# Altium footprint library CapacitorsFootprint.PcbLib: 9 footprints
Each footprint in its own frame and in the unit in brackets; x right, y up, seen from the top. Pads: shape width x height; smd on the part's side, far side on the other; paste and mask are expansions set on the pad; w line width, h text height; cw(c..) or ccw(c..) is an arc to the next point about the centre after c.
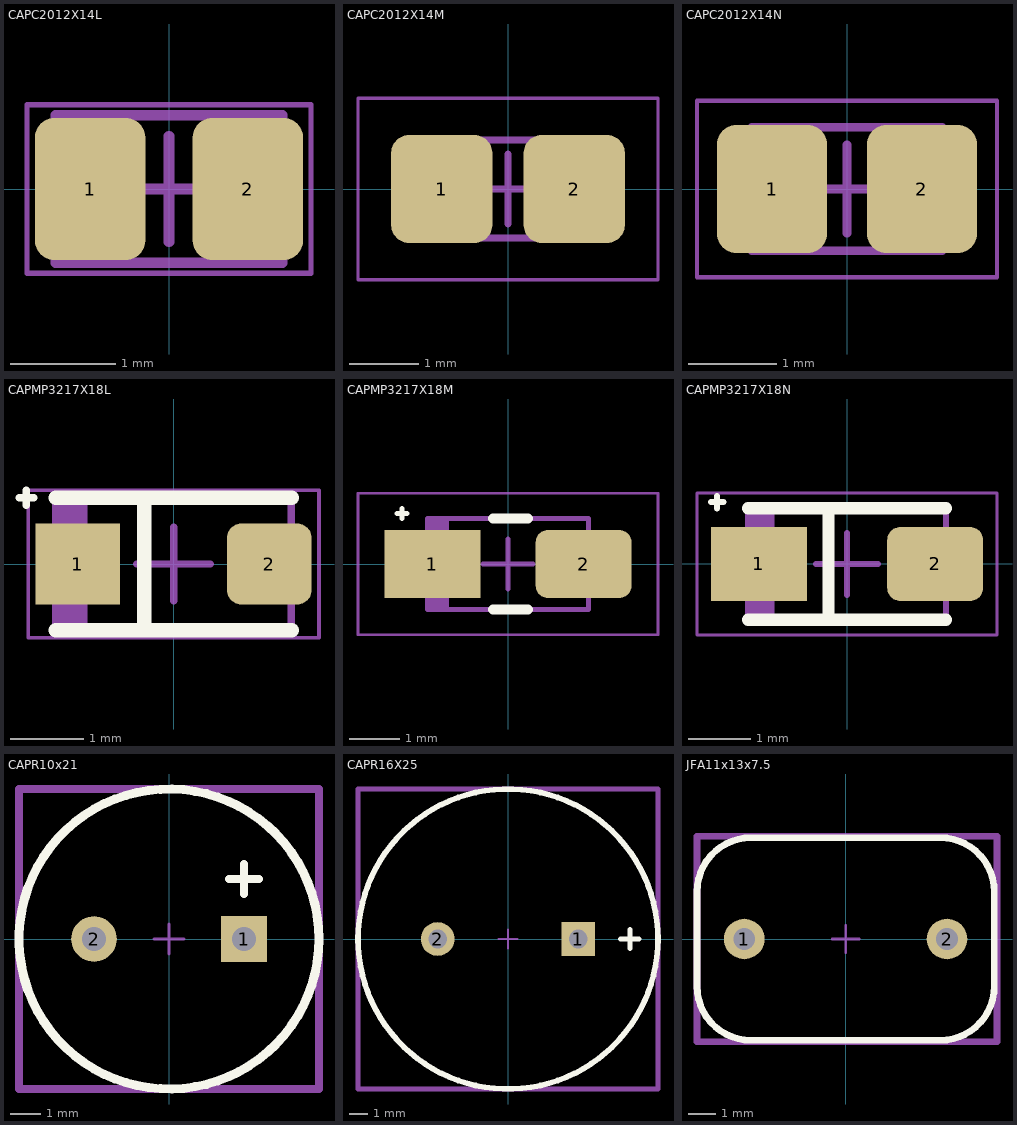
[diagram p0: the footprints below, top view; thin cyan lines are the x and y axes]

## CAPC2012X14L [mm] "Chip Capacitor 0805, 2-Leads, Body 2,00x1,25mm, IPC High Density"
height 1.4
pads (2):
  rrect35% 1.05x1.35 smd: 1(-0.75,0) 2(0.75,0)
Mechanical 13:
  lines w0.1: -1.075,-0.7 1.075,-0.7 1.075,0.7 -1.075,0.7 -1.075,-0.7
Mechanical 15:
  lines w0.05: -1.35,-0.8 1.35,-0.8 1.35,0.8 -1.35,0.8 -1.35,-0.8
  lines w0.1: -0.5,0 0.5,0 ; 0,-0.5 0,0.5
3D body "CAPC2012X14L.step": height 1.4, standoff 0, extent -1.075,-0.7 1.075,0.7

## CAPC2012X14M [mm] "Chip Capacitor 0805, 2-Leads, Body 2,00x1,25mm, IPC Low Density"
height 1.4
pads (2):
  rrect35% 1.45x1.55 smd: 1(-0.95,0) 2(0.95,0)
Mechanical 13:
  lines w0.1: -1.075,-0.7 1.075,-0.7 1.075,0.7 -1.075,0.7 -1.075,-0.7
Mechanical 15:
  lines w0.05: -2.15,-1.3 2.15,-1.3 2.15,1.3 -2.15,1.3 -2.15,-1.3
  lines w0.1: -0.5,0 0.5,0 ; 0,-0.5 0,0.5
3D body "CAPC2012X14M.step": height 1.4, standoff 0, extent -1.075,-0.7 1.075,0.7

## CAPC2012X14N [mm] "Chip Capacitor 0805, 2-Leads, Body 2,00x1,25mm, IPC Medium Density"
height 1.4
pads (2):
  rrect35% 1.25x1.45 smd: 1(-0.85,0) 2(0.85,0)
Mechanical 13:
  lines w0.1: -1.075,-0.7 1.075,-0.7 1.075,0.7 -1.075,0.7 -1.075,-0.7
Mechanical 15:
  lines w0.05: -1.7,-1 1.7,-1 1.7,1 -1.7,1 -1.7,-1
  lines w0.1: -0.5,0 0.5,0 ; 0,-0.5 0,0.5
3D body "CAPC2012X14N.step": height 1.4, standoff 0, extent -1.075,-0.7 1.075,0.7

## CAPMP3217X18L [mm] "Molded Capacitor case A, 2-Leads, Body 3,20x1,70mm, IPC High Density"
height 1.8
pads (2):
  rect 1.15x1.1 smd: 1(-1.3,0)
  rrect35% 1.15x1.1 smd: 2(1.3,0)
Top Overlay:
  lines w0.1: -2.1,0.9 -1.9,0.9 ; -2,0.8 -2,1
  lines w0.2: -1.6,-0.9 1.6,-0.9 ; -1.6,0.9 1.6,0.9 ; -0.4,-0.8 -0.4,0.9
Mechanical 13:
  rectangle: -1.6,-0.9 -1.17,0.9
  lines w0.1: -1.6,-0.9 -1.6,0.9 1.6,0.9 1.6,-0.9 -1.6,-0.9
Mechanical 15:
  lines w0.05: -1.975,-1 -1.975,1 1.975,1 1.975,-1 -1.975,-1
  lines w0.1: -0.5,0 0.5,0 ; 0,-0.5 0,0.5
3D body "CAP_TANT_case_A.STEP": height 1.7, standoff 0, extent -1.7,-0.9 1.7,0.9

## CAPMP3217X18M [mm] "Molded Capacitor case A, 2-Leads, Body 3,20x1,70mm, IPC Low Density"
height 1.8
pads (2):
  rect 1.9x1.35 smd: 1(-1.5,0)
  rrect35% 1.9x1.35 smd: 2(1.5,0)
Top Overlay:
  lines w0.1: -2.2,1 -2,1 ; -2.1,0.9 -2.1,1.1
  lines w0.2: -0.3,-0.9 0.4,-0.9 ; -0.3,0.9 0.4,0.9
Mechanical 13:
  rectangle: -1.6,-0.9 -1.17,0.9
  lines w0.1: -1.6,-0.9 -1.6,0.9 1.6,0.9 1.6,-0.9 -1.6,-0.9
Mechanical 15:
  lines w0.05: -2.975,-1.4 -2.975,1.4 2.975,1.4 2.975,-1.4 -2.975,-1.4
  lines w0.1: -0.5,0 0.5,0 ; 0,-0.5 0,0.5
3D body "CAP_TANT_case_A.STEP": height 1.7, standoff 0, extent -1.7,-0.9 1.7,0.9

## CAPMP3217X18N [mm] "Molded Capacitor case A, 2-Leads, Body 3,20x1,70mm, IPC Medium Density"
height 1.8
pads (2):
  rect 1.55x1.2 smd: 1(-1.425,0)
  rrect35% 1.55x1.2 smd: 2(1.425,0)
Top Overlay:
  lines w0.1: -2.2,1 -2,1 ; -2.1,0.9 -2.1,1.1
  lines w0.2: -1.6,-0.9 1.6,-0.9 ; -1.6,0.9 1.6,0.9 ; -0.3,-0.9 -0.3,0.9
Mechanical 13:
  rectangle: -1.6,-0.9 -1.17,0.9
  lines w0.1: -1.6,-0.9 1.6,-0.9 1.6,0.9 -1.6,0.9 -1.6,-0.9
Mechanical 15:
  lines w0.05: -2.425,-1.15 2.425,-1.15 2.425,1.15 -2.425,1.15 -2.425,-1.15
  lines w0.1: -0.5,0 0.5,0 ; 0,-0.5 0,0.5
3D body "CAP_TANT_case_A.STEP": height 1.7, standoff 0, extent -1.7,-0.9 1.7,0.9

## CAPR10x21 [mm] "Pitch 5.0"
height 21
pads (2):
  rect 1.524x1.524 hole 0.8: 1(2.5,0)
  round 1.524 hole 0.8: 2(-2.5,0)
Top Overlay:
  circle w0.3: c0,0 r5
  lines w0.254: 2,2 3,2 ; 2.5,1.5 2.5,2.5
Mechanical 15:
  lines w0.1: -0.5,0 0.5,0 ; 0,-0.5 0,0.5
  lines w0.254: -5,-5 -5,5 5,5 5,-5 -5,-5
3D body "User Library-Cap electrolitic radial 10x21.STEP": height 21.05, standoff -1.45, extent -4.998,-4.997 4.998,4.999

## CAPR16X25 [mm] "Pitch 7.5"
height 25
pads (2):
  rect 1.8x1.8 hole 1: 1(3.75,0)
  round 1.8 hole 1: 2(-3.75,0)
Top Overlay:
  circle w0.3: c0,0 r8
  lines w0.254: 6,0 7,0 ; 6.5,-0.5 6.5,0.5
Mechanical 15:
  lines w0.1: -0.5,0 0.5,0 ; 0,-0.5 0,0.5
  lines w0.254: -8,-8 8,-8 8,8 -8,8 -8,-8
3D body "User Library-CAPAER_D160_L255_P075_W008X030.STEP": height 25.51, standoff -3, extent -8.01,-8 8,8

## JFA11x13x7.5 [mm] "JFA Mylar capacitor"
height 13
pads (2):
  round 1.5 hole 0.8: 1(-3.75,0) 2(3.75,0)
Top Overlay:
  lines w0.25: -5.5,-1.75 ccw(c-3.5,-1.75) -3.5,-3.75 3.5,-3.75 ccw(c3.5,-1.75) 5.5,-1.75 5.5,1.75 ccw(c3.5,1.75) 3.5,3.75 -3.499,3.75 ; -5.499,-1.748 -5.5,-1.746 -5.5,1.75 cw(c-3.5,1.75) -3.5,3.75 ; -3.5,3.749 -3.499,3.75
Mechanical 15:
  lines w0.1: -0.5,0 0.5,0 ; 0,-0.5 0,0.5
  lines w0.254: -5.5,-3.8 5.6,-3.8 5.6,3.8 -5.5,3.8 -5.5,-3.8
3D body "JFA11x13x7.5.stp": height 15, standoff -3, extent -5.5,-3.75 5.5,3.75